# Altium footprint library SMD General.PcbLib: 9 footprints
Each footprint in its own frame and in the unit in brackets; x right, y up, seen from the top. Pads: shape width x height; smd on the part's side, far side on the other; paste and mask are expansions set on the pad; w line width, h text height; cw(c..) or ccw(c..) is an arc to the next point about the centre after c.
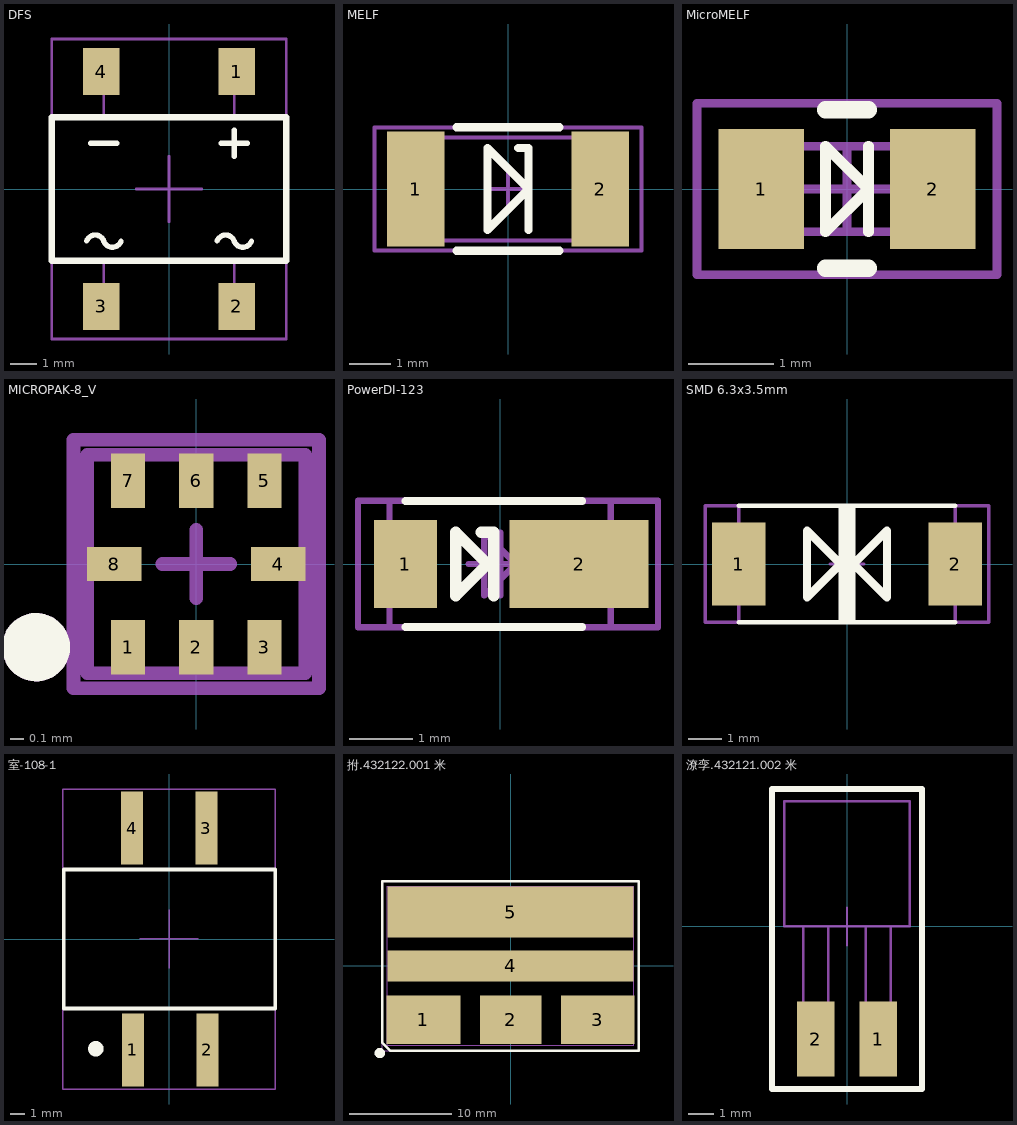
[diagram p0: the footprints below, top view; thin cyan lines are the x and y axes]

## DFS [mm]
height 3.4
pads (4):
  rect 1.4x1.8 smd: 1(2.6,4.5) 2(2.6,-4.5) 3(-2.6,-4.5) 4(-2.6,4.5)
Top Overlay:
  lines w0.2: -3.16,-1.998 cw(c-2.83,-2.116) -2.5,-2 ccw(c-2.17,-1.884) -1.84,-2.002 ; -3,1.75 -2,1.75 ; 1.84,-1.998 cw(c2.17,-2.116) 2.5,-2 ccw(c2.83,-1.884) 3.16,-2.002 ; 2,1.75 3,1.75 ; 2.5,1.25 2.5,2.25
  lines w0.25: -4.5,-2.75 4.5,-2.75 4.5,2.75 -4.5,2.75 -4.5,-2.75
Mechanical 7:
  lines w0.05: -4.5,-5.75 4.5,-5.75 4.5,5.75 -4.5,5.75 -4.5,-5.75
  text ".Designator" at -3,-0.5 h2
Mechanical 13:
  lines w0.1: -3.16,-1.998 cw(c-2.83,-2.116) -2.5,-2 ccw(c-2.17,-1.884) -1.84,-2.002 ; -3,1.75 -2,1.75 ; -2.5,-3.75 -2.5,-2.75 ; -2.5,2.75 -2.5,3.75 ; 1.84,-1.998 cw(c2.17,-2.116) 2.5,-2 ccw(c2.83,-1.884) 3.16,-2.002 ; 2,1.75 3,1.75 ; 2.5,-3.75 2.5,-2.75 ; 2.5,1.25 2.5,2.25 ; 2.5,2.75 2.5,3.75 ; -4.5,-2.75 -4.5,2.75 4.5,2.75 4.5,-2.75 -4.5,-2.75
Mechanical 15:
  lines w0.1: -1.25,0 1.25,0 ; 0,-1.25 0,1.25 ; -4.5,-5.75 4.5,-5.75 4.5,5.75 -4.5,5.75 -4.5,-5.75
3D body "User Library-DFS.STEP": height 2.61, standoff 0.02, extent -4.1,-5.15 4.1,5.15

## MELF [mm]
height 2.6
pads (2):
  rect 1.4x2.8 smd: 1(-2.25,0) 2(2.25,0)
Top Overlay:
  lines w0.2: -1.25,-1.5 1.25,-1.5 ; -1.25,1.5 1.25,1.5 ; 0.25,1 0.5,1 0.5,-1 ; -0.5,-1 0.5,0 -0.5,1 -0.5,-1
Mechanical 7:
  lines w0.05: -3.25,-1.5 3.25,-1.5 3.25,1.5 -3.25,1.5 -3.25,-1.5
  text ".Designator" at -2.5,-0.5 h1.5
Mechanical 13:
  lines w0.1: 0.25,1 0.5,1 0.5,-1 ; -2.5,-1.25 -2.5,1.25 2.5,1.25 2.5,-1.25 -2.5,-1.25 ; -0.5,-1 -0.5,1 0.5,0 -0.5,-1
Mechanical 15:
  lines w0.1: -0.5,0 0.5,0 ; 0,-0.5 0,0.5 ; -3.25,-1.5 3.25,-1.5 3.25,1.5 -3.25,1.5 -3.25,-1.5
3D body "User Library-Melf-1.step": height 2.58, standoff 0.02, extent -2.413,-1.25 2.413,1.315

## MicroMELF [mm]
height 1.25
pads (2):
  rect 1x1.4 smd: 1(-1,0) 2(1,0)
Top Overlay:
  lines w0.125: 0.25,-0.5 0.25,0.5 ; -0.25,-0.5 0.25,0 -0.25,0.5 -0.25,-0.5
  lines w0.2: -0.25,-0.925 0.25,-0.925 ; -0.25,0.925 0.25,0.925
Mechanical 7:
  lines w0.05: -1.75,-1 -1.75,1 1.75,1 1.75,-1 -1.75,-1
  text ".Designator" at -1.5,-0.5 h1.2
Mechanical 13:
  lines w0.1: 0.25,-0.5 0.25,0.5 ; -1,-0.5 1,-0.5 1,0.5 -1,0.5 -1,-0.5 ; -0.25,-0.5 -0.25,0.5 0.25,0 -0.25,-0.5
Mechanical 15:
  lines w0.1: -0.5,0 0.5,0 ; 0,-0.5 0,0.5 ; -1.75,-1 -1.75,1 1.75,1 1.75,-1 -1.75,-1
3D body "User Library-MicroMelf.step": height 1.17, standoff 0.03, extent -0.965,-0.6 0.965,0.543

## MICROPAK-8_V [mm] "HandDrawn, 8-Leads, Body 1.6x1.6mm, Pitch 0.5mm"
height 0.55
pads (8):
  rect 0.25x0.4 smd: 1(-0.5,-0.61) 2(0,-0.61) 3(0.5,-0.61) 5(0.5,0.61) 6(0,0.61) 7(-0.5,0.61)
  rect 0.4x0.25 smd: 4(0.6,0) 8(-0.6,0)
Top Overlay:
  circle w0.25: c-1.175,-0.61 r0.125
Mechanical 7:
  lines w0.05: -0.9,-0.91 0.9,-0.91 0.9,0.91 -0.9,0.91 -0.9,-0.91
  text ".Designator" at -0.75,-0.25 h0.7
Mechanical 13:
  circle w0.25: c-1.175,-0.61 r0.125
  lines w0.1: -0.8,-0.8 0.8,-0.8 0.8,0.8 -0.8,0.8 -0.8,-0.8
Mechanical 15:
  lines w0.1: -0.25,0 -0.125,0 0.125,0 0.25,0 ; 0,-0.25 0,0.25 ; -0.9,-0.91 0.9,-0.91 0.9,0.91 -0.9,0.91 -0.9,-0.91
3D body: height 0.55, standoff 0, extent -0.8,-0.8 0.8,0.8

## PowerDI-123 [mm]
height 2.6
pads (2):
  rect 1x1.4 smd: 1(-1.5,0)
  rect 2.2x1.4 smd: 2(1.25,0)
Top Overlay:
  lines w0.125: -1.5,-1 1.3,-1 ; -1.5,1 1.3,1
  lines w0.18: -0.3,0.5 -0.1,0.5 -0.1,-0.5 ; -0.7,-0.5 -0.2,0 -0.7,0.5 -0.7,-0.5
Mechanical 7:
  lines w0.05: -2.25,-1 2.5,-1 2.5,1 -2.25,1 -2.25,-1
  text ".Designator" at -2,-0.5 h1.5
Mechanical 13:
  lines w0.1: 0.25,-0.5 0.25,0.5 ; -1.75,-1 1.75,-1 1.75,1 -1.75,1 -1.75,-1 ; -0.25,-0.5 -0.25,0.5 0.25,0 -0.25,-0.5
Mechanical 15:
  lines w0.1: -0.5,0 0.5,0 ; 0,-0.5 0,0.5 ; -2.25,-1 2.5,-1 2.5,1 -2.25,1 -2.25,-1
3D body "User Library-POWERDI-123.STEP": height 1, standoff 0, extent -1.85,-0.965 2.05,0.965

## SMD 6.3x3.5mm [mm] "Russian Zener SMD case"
height 2.8
pads (2):
  rect 1.6x2.5 smd: 1(-3.25,0) 2(3.25,0)
Top Overlay:
  rectangle: -0.25,-1.75 0.25,1.75
  lines w0.125: -3.25,-1.75 3.25,-1.75 ; -3.25,1.75 3.25,1.75
  lines w0.25: -1.2,-1 -1.2,1 -0.2,0 -1.2,-1 ; 0.2,0 1.2,1 1.2,-1 0.2,0
Mechanical 7:
  lines w0.05: -4.25,-1.75 -4.25,1.75 4.25,1.75 4.25,-1.75 -4.25,-1.75
  text ".Designator" at -2.25,-0.25 h1.5
Mechanical 13:
  lines w0.1: -3.25,-1.75 3.25,-1.75 3.25,1.75 -3.25,1.75 -3.25,-1.75
Mechanical 15:
  lines w0.1: -0.5,0 0.5,0 ; 0,-0.5 0,0.5 ; -4.25,-1.75 -4.25,1.75 4.25,1.75 4.25,-1.75 -4.25,-1.75
3D body: height 1.6, standoff 0, extent -3.5,-1 -3.25,1
3D body: height 1.6, standoff 0, extent 3.25,-1 3.5,1
3D body: height 2.8, standoff 0.01, extent -3.25,-1.75 3.25,1.75

## 室-108-1 [mm]
height 3.6
pads (4):
  rect 1.5x5 smd: 1(-2.46,-7.58) 2(2.62,-7.58) 3(2.56,7.58) 4(-2.52,7.58)
Top Overlay:
  circle w0.55: c-5,-7.5 r0.25
  lines w0.25: -7.2,-4.75 7.25,-4.75 7.25,4.75 -7.2,4.75 -7.2,-4.75
Mechanical 7:
  lines w0.05: -7.25,-10.25 7.25,-10.25 7.25,10.25 -7.25,10.25 -7.25,-10.25
  text ".Designator" at -3,-0.5 h2
Mechanical 15:
  lines w0.1: -2,0 2,0 ; 0,-2 0,2 ; -7.25,-10.25 -7.25,10.25 7.25,10.25 7.25,-10.25 -7.25,-10.25
3D body: height 3.2, standoff 0, extent -6.7,-4.5 6.8,4.5
3D body: height 3.5, standoff 3.2, extent -6.25,-4 6.25,4
3D body: height 0.3, standoff 0, extent -3.1,4.5 -1.9,9.5
3D body: height 0.3, standoff 0, extent 2,4.5 3.2,9.5
3D body: height 0.3, standoff 0, extent -3.05,-9.5 -1.85,-4.5
3D body: height 0.3, standoff 0, extent 2,-9.5 3.2,-4.5

## 拊.432122.001 米 [mm]
height 4
pads (5):
  rect 7.2x4.75 smd: 1(-8.5,-5.25) 3(8.5,-5.25)
  rect 6x4.75 smd: 2(0,-5.25)
  rect 24x3 smd: 4(0,0)
  rect 24x5 smd: 5(0,5.25)
Top Overlay:
  circle w0.5: c-12.75,-8.5 r0.25
  lines w0.25: -12.5,-7.5 -12.5,8.25 12.5,8.25 12.5,-8.25 -11.75,-8.25 -12.5,-7.5
Mechanical 7:
  lines w0.05: -12.5,-8.25 12.5,-8.25 12.5,8.25 -12.5,8.25 -12.5,-8.25
  text ".Designator" at -3,-0.5 h2
Mechanical 13:
  circle w0.3: c-11,-6.75 r0.15
  lines w0.1: -12,-7.75 12,-7.75 12,7.75 -12,7.75 -12,-7.75
  text "Check!" at -3.75,-0.5 h1.52
Mechanical 15:
  lines w0.1: -1,0 1,0 ; 0,-1 0,1 ; -12.5,-8.25 -12.5,8.25 12.5,8.25 12.5,-8.25 -12.5,-8.25
3D body: height 0.5, standoff 0.01, extent -12,-7.75 12,7.75
3D body: height 4, standoff 0.5, extent -11.75,-7.5 11.75,7.5

## 潦孪.432121.002 米 [mm]
height 3.8
pads (2):
  rect 1.5x3 smd: 1(1.25,-4.5) 2(-1.25,-4.5)
Top Overlay:
  lines w0.25: -3,-6.5 3,-6.5 3,5.5 -3,5.5 -3,-6.5
Mechanical 7:
  lines w0.05: -3,-6.5 3,-6.5 3,5.5 -3,5.5 -3,-6.5
  text ".Designator" at -2.25,-0.25 h1.5
Mechanical 13:
  lines w0.1: -1.75,0 -1.75,-5.5 -0.75,-5.5 -0.75,0 ; 0.75,0 0.75,-5.5 1.75,-5.5 1.75,0 ; -2.5,0 -2.5,5 2.5,5 2.5,0 -2.5,0
Mechanical 15:
  lines w0.1: -0.75,0 0.75,0 ; 0,-0.75 0,0.75 ; -3,-6.5 3,-6.5 3,5.5 -3,5.5 -3,-6.5
3D body: height 0.6, standoff 0, extent -2.5,0 2.5,5
3D body: height 0.5, standoff 0, extent -1.7,-5.6 -0.8,-3.4
3D body: height 1.3, standoff 0.8, extent -1.7,-3.4 -0.8,0
3D body: height 2.6, standoff 0.6, extent -2.5,0 2.5,5
3D body: height 1.05, standoff 0.25, extent -1.7,-3.65 -0.8,-3.15
3D body: height 0.5, standoff 0, extent -1.7,-3.65 -0.8,-3.15
3D body: height 1.3, standoff 0.8, extent -1.7,-3.65 -0.8,-3.15
3D body: height 1.3, standoff 0.8, extent 0.8,-3.65 1.7,-3.15
3D body: height 0.5, standoff 0, extent 0.8,-3.65 1.7,-3.15
3D body: height 1.05, standoff 0.25, extent 0.8,-3.65 1.7,-3.15
3D body: height 1.3, standoff 0.8, extent 0.8,-3.4 1.7,0
3D body: height 0.5, standoff 0, extent 0.8,-5.6 1.7,-3.4